# Altium schematic symbol library Schematic Components.SchLib: 2 symbols
Pins are listed as number, name and electrical type; pins without a type are passive.

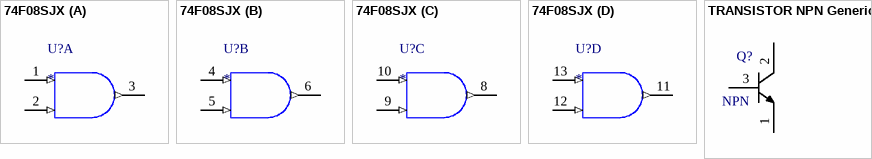
[diagram p0: symbols 74F08SJX to TRANSISTOR NPN Generic]

## 74F08SJX
designator U?
Quad 2-Input AND Gate
footprint DIP14
pins on every part: 14 VCC (power) hidden to VCC
part A pins: 1 (in), 2 (in), 3 (out)
part B pins: 4 (in), 5 (in), 6 (out)
part C pins: 8 (out), 9 (in), 10 (in)
part D pins: 7 GND (power) hidden to GND, 8 GND (power) hidden to GND, 9 GND (power) hidden to GND, 11 (out), 12 (in), 13 (in)

## TRANSISTOR NPN Generic
designator Q?, comment NPN
footprint TO-92A (TO, Flat Index; 3 In-Line, Axial Leads; Body Dia. 4.5mm; Leads 0.51 x 0.48 mm (max))
pins: 1, 2, 3